# Altium footprint library Capacitor.PcbLib: 60 footprints (part 1 of 4)
Each footprint in its own frame and in the unit in brackets; x right, y up, seen from the top. Pads: shape width x height; smd on the part's side, far side on the other; paste and mask are expansions set on the pad; w line width, h text height; cw(c..) or ccw(c..) is an arc to the next point about the centre after c.
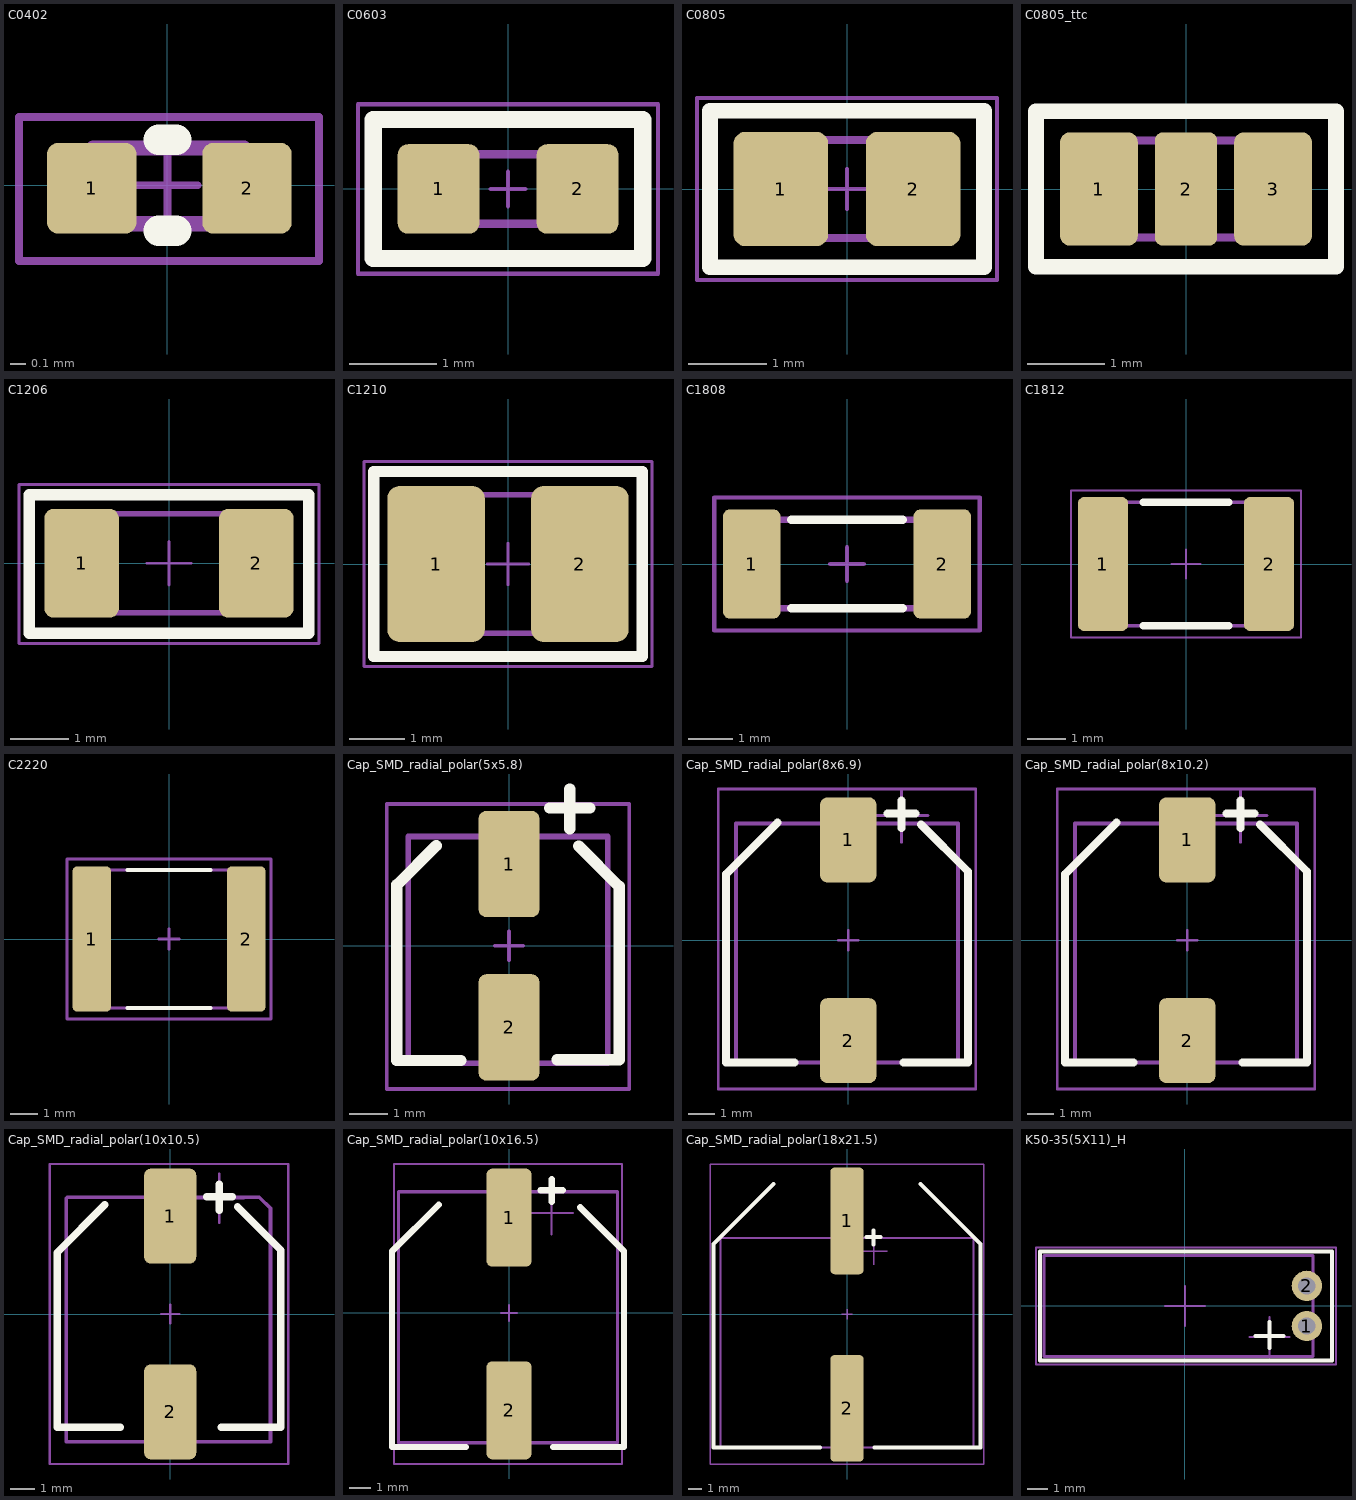
[diagram p0: the footprints below, top view; thin cyan lines are the x and y axes]

## C0402 [mm] "0.039\" L x 0.020\" W (1.00mm x 0.50mm)"
height 0.55
pads (2):
  rrect25% 0.59x0.6 smd: 1(-0.5,-0.02) 2(0.525,-0.02)
Top Overlay:
  lines w0.2: -0.058,-0.3 0.058,-0.3 ; -0.058,0.3 0.058,0.3
Mechanical 13:
  lines w0.1: -0.49,-0.254 0.506,-0.254 0.506,0.246 -0.49,0.246 -0.49,-0.254
Mechanical 15:
  lines w0.05: -0.2,0 0.2,0 ; 0,-0.2 0,0.2 ; -0.98,-0.5 1,-0.5 1,0.45 -0.98,0.45 -0.98,-0.5
3D body "User Library-C0402-1.step": height 0.48, standoff -0.01, extent -0.49,-0.254 0.506,0.246

## C0603 [mm]
height 0.9
pads (2):
  rrect25% 0.94x1.03 smd: 1(-0.8,0) 2(0.8,0)
Top Overlay:
  lines w0.2: -1.55,-0.796 -1.55,0.796 ; -1.538,-0.8 1.538,-0.8 ; -1.538,0.8 1.538,0.8 ; 1.55,-0.796 1.55,0.796
Mechanical 13:
  lines w0.1: -0.8,-0.4 -0.8,0.4 0.8,0.4 0.8,-0.4 -0.8,-0.4
Mechanical 15:
  lines w0.05: -1.726,0.974 -1.726,-0.975 1.714,-0.975 ; -1.726,0.975 1.725,0.975 1.726,0.974 1.726,-0.975 ; -1.325,0.725 0,0.725 ; -0.2,0 0.2,0 ; 0,-0.2 0,0.2
3D body "CAPC0603.STEP": height 0.9, standoff 0, extent -0.8,-0.4 0.8,0.4

## C0805 [mm]
height 1.3
pads (2):
  rrect25% 1.21x1.46 smd paste-5: 1(-0.845,0) 2(0.845,0)
Top Overlay:
  lines w0.2: -1.75,-1 -1.75,1 1.75,1 1.75,-1 -1.75,-1
Top Paste:
  region: -1.3,0.73 -0.39,0.73 -0.36,0.73 -0.305,0.707 -0.263,0.665 -0.24,0.61 -0.24,0.58 -0.48,0 -0.24,-0.58 -0.24,-0.61 -0.263,-0.665 -0.305,-0.707 -0.36,-0.73 -0.39,-0.73 -1.3,-0.73 -1.33,-0.73 -1.385,-0.707 -1.427,-0.665 -1.45,-0.61 -1.45,-0.58 -1.45,0.58 -1.45,0.61 -1.427,0.665 -1.385,0.707 -1.33,0.73
  region: 1.3,0.73 0.39,0.73 0.36,0.73 0.305,0.707 0.263,0.665 0.24,0.61 0.24,0.58 0.48,0 0.24,-0.58 0.24,-0.61 0.263,-0.665 0.305,-0.707 0.36,-0.73 0.39,-0.73 1.3,-0.73 1.33,-0.73 1.385,-0.707 1.427,-0.665 1.45,-0.61 1.45,-0.58 1.45,0.58 1.45,0.61 1.427,0.665 1.385,0.707 1.33,0.73
Mechanical 13:
  lines w0.1: -1,-0.625 -1,0.625 1,0.625 1,-0.625 -1,-0.625
Mechanical 15:
  lines w0.05: -0.254,0 0.254,0 ; 0,-0.254 0,0.254 ; -1.916,-1.164 -1.916,1.164 1.916,1.164 1.916,-1.164 -1.916,-1.164
3D body "CAP0805.STEP": height 0.78, standoff 0, extent -1,-0.625 1,0.625

## C0805_ttc [mm]
height 1.3
pads (3):
  rrect25% 1x1.46 smd paste-5: 1(-1.12,0) 3(1.12,0)
  rrect25% 0.8x1.46 smd paste-5: 2(0,0)
Top Overlay:
  lines w0.2: -1.93,-1 1.93,-1 1.93,1 -1.93,1 -1.93,-1
Top Paste:
  region: -1.495,0.73 -0.765,0.73 -0.735,0.73 -0.68,0.707 -0.638,0.665 -0.615,0.61 -0.615,0.58 -0.855,0 -0.615,-0.58 -0.615,-0.61 -0.638,-0.665 -0.68,-0.707 -0.735,-0.73 -0.765,-0.73 -1.495,-0.73 -1.521,-0.73 -1.569,-0.71 -1.605,-0.674 -1.625,-0.626 -1.625,-0.6 -1.625,0.6 -1.625,0.626 -1.605,0.674 -1.569,0.71 -1.521,0.73
  region: 1.495,0.73 0.765,0.73 0.735,0.73 0.68,0.707 0.638,0.665 0.615,0.61 0.615,0.58 0.855,0 0.615,-0.58 0.615,-0.61 0.638,-0.665 0.68,-0.707 0.735,-0.73 0.765,-0.73 1.495,-0.73 1.521,-0.73 1.569,-0.71 1.605,-0.674 1.625,-0.626 1.625,-0.6 1.625,0.6 1.625,0.626 1.605,0.674 1.569,0.71 1.521,0.73
Mechanical 7:
  lines w0.1: -1.275,-0.625 -1.275,0.625 ; -1,-0.625 1,-0.625 ; -1,0.625 1,0.625 ; 1.275,-0.625 1.275,0.625
Mechanical 9:
  text ".Designator" at -4.5,1.7 h3
Mechanical 10:
  text ".Comment" at -3.05,-2.6 h2
Mechanical 15:
  lines w0.05: -1.93,-0.93 -1.93,0.93 ; -1.73,-0.93 1.73,-0.93 ; -1.73,0.93 1.73,0.93 ; 1.93,-0.93 1.93,0.93
  lines w0.1: -0.254,0 0.254,0 ; 0,-0.254 0,0.254
3D body "User Library-Murata_NFM21C.STEP": height 0.85, standoff 0, extent -1,-0.625 1,0.625

## C1206 [mm]
height 1.5
pads (2):
  rrect25% 1.28x1.87 smd: 1(-1.5,0) 2(1.5,0)
Top Overlay:
  lines w0.2: -2.4,-1.2 2.4,-1.2 2.4,1.175 -2.4,1.175 -2.4,-1.2
Mechanical 13:
  lines w0.1: -1.603,-0.849 1.597,-0.849 1.597,0.851 -1.603,0.849 -1.603,-0.849
Mechanical 15:
  lines w0.05: -0.375,0 0.375,0 ; 0,-0.375 0,0.375 ; -2.575,-1.375 -2.575,1.35 2.575,1.35 2.575,-1.375 -2.575,-1.375
3D body "SMD_1206.step": height 1.5, standoff 0, extent -1.603,-0.849 1.597,0.851

## C1210 [mm] "0.126\" L x 0.098\" W (3.20mm x 2.50mm)"
height 2.8
pads (2):
  rrect25% 1.76x2.82 smd paste-5: 1(-1.3,0) 2(1.3,0)
Top Overlay:
  lines w0.2: -2.425,-1.675 2.425,-1.675 2.425,1.675 -2.425,1.675 -2.425,-1.675
Top Paste:
  region: 1.96,1.41 0.635,1.41 0.591,1.41 0.51,1.376 0.449,1.315 0.415,1.234 0.415,1.19 0.765,-0.01 0.415,-1.195 0.415,-1.238 0.448,-1.317 0.508,-1.377 0.587,-1.41 0.63,-1.41 1.955,-1.41 1.999,-1.41 2.08,-1.376 2.141,-1.315 2.175,-1.234 2.175,-1.19 2.175,1.195 2.175,1.238 2.142,1.317 2.082,1.377 2.003,1.41
  region: -1.96,1.41 -0.635,1.41 -0.591,1.41 -0.51,1.376 -0.449,1.315 -0.415,1.234 -0.415,1.19 -0.765,-0.01 -0.415,-1.195 -0.415,-1.238 -0.448,-1.317 -0.508,-1.377 -0.587,-1.41 -0.63,-1.41 -1.955,-1.41 -1.999,-1.41 -2.08,-1.376 -2.141,-1.315 -2.175,-1.234 -2.175,-1.19 -2.175,1.195 -2.175,1.238 -2.142,1.317 -2.082,1.377 -2.003,1.41
Mechanical 13:
  lines w0.1: -1.6,-1.25 -1.6,1.25 1.6,1.25 1.6,-1.25 -1.6,-1.25
Mechanical 15:
  lines w0.05: -0.375,0 0.375,0 ; 0,-0.375 0,0.375 ; -2.6,-1.85 2.6,-1.85 2.6,1.85 -2.6,1.85 -2.6,-1.85
3D body "SMD_1210.step": height 1.65, standoff -0.05, extent -1.6,-1.25 1.6,1.25

## C1808 [mm]
height 1.7
pads (2):
  rrect25% 1.3x2.47 smd: 1(-2.15,0) 2(2.15,0)
Top Overlay:
  lines w0.2: -1.25,-1 1.25,-1 ; -1.25,1 1.25,1
Mechanical 7:
  lines w0.15: -2.25,-1 -2.25,1 2.25,1 2.25,-1 -2.25,-1
Mechanical 9:
  text ".Designator" at -4.75,2.5 h3
Mechanical 10:
  text ".Comment" at -3.2,-2.9 h2
Mechanical 15:
  lines w0.1: -0.375,0 0.375,0 ; 0,-0.375 0,0.375 ; -3,-1.5 -3,1.5 3,1.5 3,-1.5 -3,-1.5
3D body "User Library-cap_1808.step": height 2, standoff 0, extent -2.3,-1 2.3,1

## C1812 [mm] "0.177\" L x 0.126\" W (4.50mm x 3.20mm)"
height 1.8
pads (2):
  rrect25% 1.3x3.47 smd: 1(-2.15,0) 2(2.15,0)
Top Overlay:
  lines w0.2: -1.1,-1.6 1.1,-1.6 ; -1.1,1.6 1.1,1.6
Mechanical 13:
  lines w0.1: -2.25,-1.6 -2.25,1.6 2.25,1.6 2.25,-1.6 -2.25,-1.6
Mechanical 15:
  lines w0.05: -0.375,0 0.375,0 ; 0,-0.375 0,0.375 ; -2.975,-1.9 2.975,-1.9 2.975,1.9 -2.975,1.9 -2.975,-1.9
3D body "User Library-CAPC4532X13.step": height 1.3, standoff 0, extent -2.25,-1.6 2.25,1.6

## C2220 [mm]
height 1.8
pads (2):
  rrect25% 1.4x5.27 smd: 1(-2.8,0) 2(2.8,0)
Top Overlay:
  lines w0.15: -1.5,-2.5 1.5,-2.5 ; -1.5,2.5 1.5,2.5
Mechanical 7:
  lines w0.1: -2.8,-2.5 2.8,-2.5 2.8,2.5 -2.8,2.5 -2.8,-2.5
Mechanical 9:
  text ".Designator" at -4.75,3.75 h3
Mechanical 10:
  text ".Comment" at -3.5,-4.4 h2
Mechanical 15:
  lines w0.1: -0.375,0 0.375,0 ; 0,-0.375 0,0.375 ; -3.7,-2.9 -3.7,2.9 3.7,2.9 3.7,-2.9 -3.7,-2.9
3D body "User Library-CAPC5750X23.step": height 2.3, standoff 0, extent -2.85,-2.5 2.85,2.5

## Cap_SMD_radial_polar(5x5.8) [mm]
height 10
pads (2):
  rrect25% 1.6x2.8 smd: 1(0,2.15) 2(0,-2.15)
Top Overlay:
  lines w0.3: -1.919,2.631 -2.95,1.6 -2.95,-3.02 -1.275,-3.02 ; 1.075,3.625 2.125,3.625 ; 1.264,-3.003 2.898,-3.003 2.898,1.562 1.836,2.624 ; 1.6,3.075 1.6,4.125
Mechanical 7:
  lines w0.1: 1.075,3.638 2.125,3.638 ; 1.6,3.075 1.6,4.125
  lines w0.15: -2.662,-3.092 2.596,-3.092 2.596,2.875 -2.65,2.875 -2.65,-3.092
Mechanical 9:
  text ".Designator" at -5.3,6.8 h3
Mechanical 10:
  text ".Comment" at -3.2,-7.3 h2
Mechanical 15:
  lines w0.1: -0.375,0 0.375,0 ; 0,-0.375 0,0.375 ; -3.216,-3.77 -3.216,3.733 3.162,3.733 3.162,-3.77 -3.216,-3.77
3D body "User Library-CAP SMD SVP 5_0x5_9.STEP": height 5.9, standoff 0, extent -2.675,-3.1 2.625,2.9

## Cap_SMD_radial_polar(8x6.9) [mm]
height 10
pads (2):
  rrect25% 2.12x3.2 smd: 1(0,3.78) 2(0,-3.78)
Top Overlay:
  lines w0.3: -2.662,4.438 -4.6,2.5 -4.6,-4.6 -2.025,-4.6 ; 1.475,4.775 2.525,4.775 ; 2,4.225 2,5.275 ; 2.075,-4.6 4.5,-4.6 4.5,2.6 2.738,4.362
Mechanical 7:
  lines w0.1: 1,4.7 3,4.7 ; 2,3.7 2,5.7
  lines w0.15: -4.225,-4.6 -4.225,4.4 -4.175,4.4 4.125,4.4 4.125,-4.6 -4.225,-4.6
Mechanical 9:
  text ".Designator" at -5.3,6.8 h3
Mechanical 10:
  text ".Comment" at -3.2,-7.3 h2
Mechanical 15:
  lines w0.1: -0.375,0 0.375,0 ; 0,-0.375 0,0.375 ; -4.9,-5.6 -4.9,5.7 4.8,5.7 4.8,-5.6 -4.9,-5.6
3D body "User Library-CAP SMD SVP 8_0x6_9.STEP": height 6.9, standoff 0, extent -4.175,-4.6 4.125,4.4

## Cap_SMD_radial_polar(8x10.2) [mm]
height 10
pads (2):
  rrect25% 2.12x3.2 smd: 1(0,3.78) 2(0,-3.78)
Top Overlay:
  lines w0.3: -2.662,4.438 -4.6,2.5 -4.6,-4.6 -2.025,-4.6 ; 1.475,4.775 2.525,4.775 ; 2,4.225 2,5.275 ; 2.075,-4.6 4.5,-4.6 4.5,2.6 2.738,4.362
Mechanical 7:
  lines w0.1: 1,4.7 3,4.7 ; 2,3.7 2,5.7
  lines w0.15: -4.225,-4.6 -4.225,4.4 -4.175,4.4 4.125,4.4 4.125,-4.6 -4.225,-4.6
Mechanical 9:
  text ".Designator" at -5.3,6.8 h3
Mechanical 10:
  text ".Comment" at -3.2,-7.3 h2
Mechanical 15:
  lines w0.1: -0.375,0 0.375,0 ; 0,-0.375 0,0.375 ; -4.9,-5.6 -4.9,5.7 4.8,5.7 4.8,-5.6 -4.9,-5.6
3D body "User Library-SMD 8x10.step": height 8.5, standoff 0, extent -4.175,-4.95 4.125,4.75

## Cap_SMD_radial_polar(10x10.5) [mm] "ECAP SMD, 220 ìêÔ, 35Â"
height 10
pads (2):
  rrect25% 2.12x3.86 smd: 1(0,3.98) 2(0,-3.98)
Top Overlay:
  lines w0.3: -2.662,4.438 -4.6,2.5 -4.6,-4.6 -2.025,-4.6 ; 1.475,4.775 2.525,4.775 ; 2,4.225 2,5.275 ; 2.075,-4.6 4.5,-4.6 4.5,2.6 2.738,4.362
Mechanical 7:
  lines w0.1: 1,4.7 3,4.7 ; 2,3.7 2,5.7
  lines w0.15: -4.225,-5.2 -4.225,4.7 -4.175,4.75 3.625,4.75 4.075,4.3 4.075,-5.2 -4.225,-5.2
Mechanical 9:
  text ".Designator" at -5.3,6.8 h3
Mechanical 10:
  text ".Comment" at -3.1,-7.8 h2
Mechanical 15:
  lines w0.1: -0.375,0 0.375,0 ; 0,-0.375 0,0.375 ; -4.9,-6.1 4.8,-6.1 4.8,6.1 -4.9,6.1 -4.9,-6.1
3D body "User Library-ALU-F.STEP": height 10.2, standoff 0, extent -4.175,-5.15 4.125,4.75

## Cap_SMD_radial_polar(10x16.5) [mm] "ECAP SMD, 220 ìêÔ, 35Â"
height 10
pads (2):
  rrect25% 2.12x4.6 smd: 1(0,4.48) 2(0,-4.58)
Top Overlay:
  lines w0.3: -3.312,5.088 -5.5,2.9 -5.5,-6.3 -2.025,-6.3 ; 1.475,5.775 2.525,5.775 ; 2,5.225 2,6.275 ; 2.075,-6.3 5.4,-6.3 5.4,2.9 3.337,4.962
Mechanical 7:
  lines w0.1: 1,4.7 3,4.7 ; 2,3.7 2,5.7
  lines w0.15: -5.2,-6.1 5.1,-6.1 5.1,5.7 -5.2,5.7 -5.2,-6.1
Mechanical 9:
  text ".Designator" at -5.2,7.7 h3
Mechanical 10:
  text ".Comment" at -2.7,-8.9 h2
Mechanical 15:
  lines w0.1: -0.375,0 0.375,0 ; 0,-0.375 0,0.375 ; -5.4,-7.1 -5.4,7 5.3,7 5.3,-7.1 -5.4,-7.1
3D body "User Library-A3D-003-00017.step": height 16.5, standoff 0, extent -5.175,-6.05 5.125,5.65

## Cap_SMD_radial_polar(18x21.5) [mm] "ECAP SMD, 220 ìêÔ, 35Â"
height 10
pads (2):
  rrect25% 2.5x8 smd: 1(0,6.98) 2(0,-7.08)
Top Overlay:
  lines w0.3: -5.5,9.75 -10,5.25 -10,-10 -2.025,-10 ; 1.475,5.775 2.525,5.775 ; 2,5.225 2,6.275 ; 2.075,-10 10,-10 10,5.25 5.5,9.75
Mechanical 7:
  lines w0.1: 1,4.7 3,4.7 ; 2,3.7 2,5.7
  lines w0.15: -9.5,-10 9.5,-10 9.5,5.7 -9.5,5.7 -9.5,-10
Mechanical 9:
  text ".Designator" at -5.75,12.25 h3
Mechanical 10:
  text ".Comment" at -3,-13 h2
Mechanical 15:
  lines w0.1: -0.375,0 0.375,0 ; 0,-0.375 0,0.375 ; -10.25,-11.25 -10.25,11.25 10.25,11.25 10.25,-11.25 -10.25,-11.25
3D body "User Library-CAP-EL_K21.STEP": height 21.01, standoff 0.01, extent -9.5,-10.05 9.5,10.05

## K50-35(5X11)_H [mm]
pads (2):
  round 1.5 hole 0.85: 1(6.05,-1)
  round 1.5 hole 0.85 mask+0.102: 2(6.05,1)
Top Overlay:
  lines w0.2: 3.5,-1.5 4.9,-1.5 ; 4.2,-2.1 4.2,-0.8 ; -7.2,-2.7 7.3,-2.7 7.3,2.7 -7.2,2.7 -7.2,-2.7
Bottom Overlay:
  lines w0.2: 5.3,-3 6.7,-3 ; 6,-3.7 6,-2.3
Mechanical 7:
  lines w0.1: 3.2,-1.55 5.2,-1.55 ; 4.2,-2.55 4.2,-0.55
  lines w0.15: -7,-2.5 -7,2.5 6.35,2.5 6.35,-2.5 -7,-2.5
Mechanical 9:
  text ".Designator" at 8,1 h3
Mechanical 10:
  text ".Comment" at 7.7,-1.2 h2
Mechanical 15:
  lines w0.1: -1,0 1,0 ; 0,-1 0,1 ; -7.4,-2.9 7.5,-2.9 7.5,2.9 -7.4,2.9 -7.4,-2.9
3D body "User Library-Cap electro 5x11x2mm RA.STEP": height 5.13, standoff -3.4, extent -6.925,-2.525 6.396,2.526